# Altium footprint library PCB - MECHANICAL - KEYSTONE 611.PCBLIB: 1 footprints
Each footprint in its own frame and in the unit in brackets; x right, y up, seen from the top. Pads: shape width x height; smd on the part's side, far side on the other; paste and mask are expansions set on the pad; w line width, h text height; cw(c..) or ccw(c..) is an arc to the next point about the centre after c.
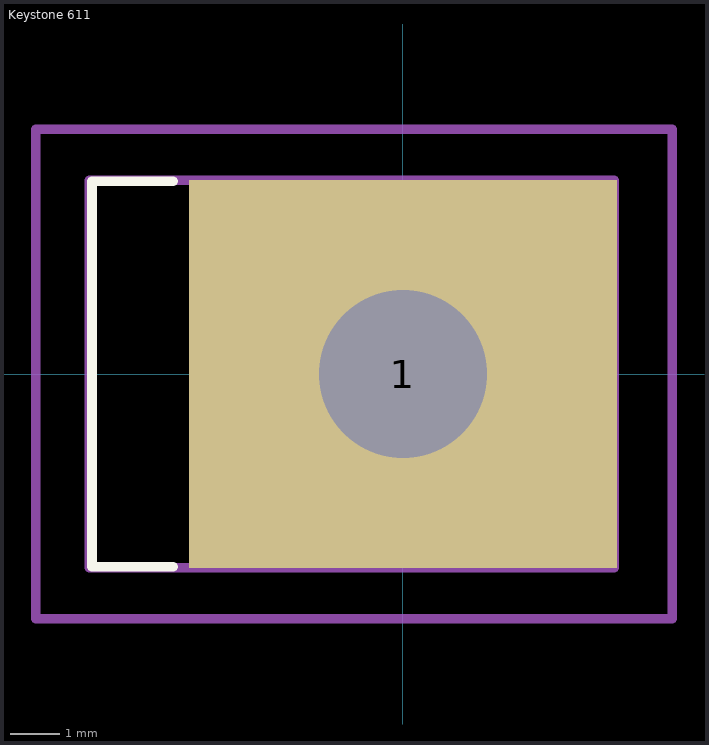
[diagram p0: the footprint, top view; thin cyan lines are the x and y axes]

## Keystone 611 [mm]
height 9.52
pads (1):
  rect 8.74x7.92 hole 3.43: 1(0,0)
Top Overlay:
  lines w0.2: -4.699,-3.937 -6.35,-3.937 -6.35,3.937 -4.699,3.937
Mechanical 1:
  lines w0.2: -6.402,-3.96 4.318,-3.96 4.318,3.96 -6.402,3.96 -6.402,-3.96
Mechanical 15:
  lines w0.2: -1,0 1,0 ; 0,-1 0,1 ; -7.5,-5 -7.5,5 5.5,5 5.5,-5 -7.5,-5
3D body "Keystone 611.STEP": height 9.52, standoff 0, extent -6.402,-3.96 4.318,3.96